# Altium footprint library BAT-HLD-012-SMT.PcbLib: 1 footprints
Each footprint in its own frame and in the unit in brackets; x right, y up, seen from the top. Pads: shape width x height; smd on the part's side, far side on the other; paste and mask are expansions set on the pad; w line width, h text height; cw(c..) or ccw(c..) is an arc to the next point about the centre after c.
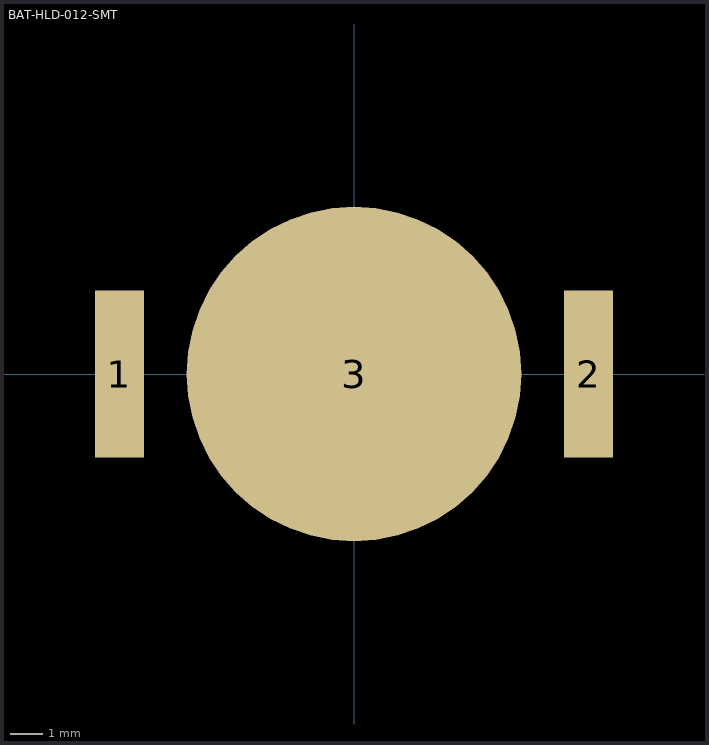
[diagram p0: the footprint, top view; thin cyan lines are the x and y axes]

## BAT-HLD-012-SMT [mm] "12mm SMT Battery Retainer"
pads (3):
  rect 1.5x5.1 smd: 1(-7.15,0) 2(7.15,0)
  round 10.2 smd: 3(0,0)